# Altium footprint library Robsense_PCBLib.PcbLib: 82 footprints (part 6 of 6)
Each footprint in its own frame and in the unit in brackets; x right, y up, seen from the top. Pads: shape width x height; smd on the part's side, far side on the other; paste and mask are expansions set on the pad; w line width, h text height; cw(c..) or ccw(c..) is an arc to the next point about the centre after c.
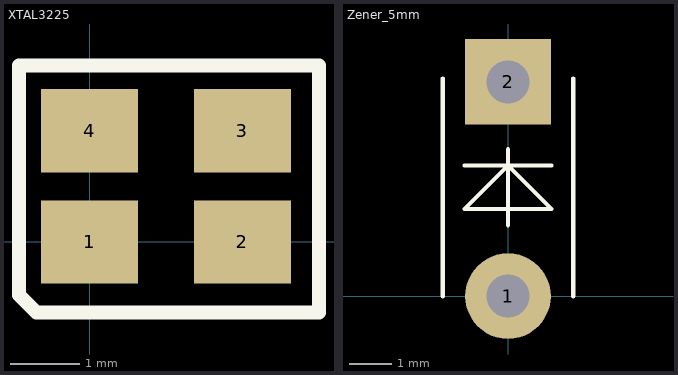
[diagram p5: the footprints below, top view; thin cyan lines are the x and y axes]

## XTAL3225 [mm]
pads (4):
  rect 1.4x1.2 smd mask+0.08: 1(0,0) 2(2.2,0) 3(2.2,1.6) 4(0,1.6)
Top Overlay:
  lines w0.2: -1.016,-0.762 -1.016,2.54 3.302,2.54 3.302,-1.016 -0.762,-1.016 -1.016,-0.762

## Zener_5mm [mm]
pads (2):
  round 2 hole 1: 1(0,0)
  rect 2x2 hole 1: 2(0,5)
Top Overlay:
  lines w0.1: -1.524,0 -1.524,5.08 ; -1.016,3.048 1.016,3.048 ; 0,1.651 0,3.429 ; 1.524,0 1.524,5.08 ; -1.016,2.032 1.016,2.032 0,3.048 -1.016,2.032